# EAGLE library part 749013011A (library WE-LAN)
WE-LAN LAN Transformer Characteristics Suitable for industrial temperatures from –40 °C up to +125 °C Different version available from 1.5 kV isolation to 6 kV. HPLE version Additional CMC for higher attenuation Non PoE, PoE and PoE++ up to 2 A PoE up to 150 W and speeds up to 1 Gbit/s Available in SMT Compliant with standards: IEEE 802.3u, IEEE 802.3ab, IEEE 802.3af, IEEE 802.3at and IEEE 802.3bt UL Recognized Applications Compatible to Industrial Ethernet systems like EtherCAT or Profinet Compliant with most IC’s for Ethernet applications such as Microchip, Texas Instruments, Broadcom, Linear Technology Router, switches, sensors, robotics, automation, IP cameras, IoT applications Details see: www.we-online.com/en/components/products/WE-LAN Updated by Ella Wu 2024-03-21 2024 (C) Würth Elektronik
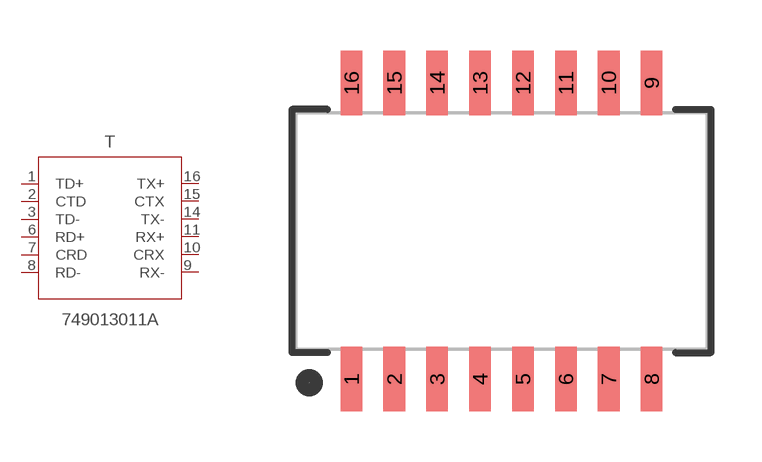
[diagram p28: symbol with the pads of 749013011A; footprint 749013011A]

Designator prefix T

## 749013011A (DATA-RATE: 10/100BASE-TX; DATASHEET: https://www.we-online.com/redexpert/spec/749013011A?ae; HPLE: No; IMPROVED-CMRR: No; L: 350 uH; MOUNT: SMT; OPERATING-TEMPERATURE: -40 °C up to +105 °C; PART-NUMBER: 749013011A; POE: PoE (up to 350 mA); PORTS: 1; VALUE: 749013011A; VT: 1500 V (RMS))  [749013011A]
1  TD+  pas
2  CTD  pas
3  TD-  pas
6  RD+  pas
7  CRD  pas
8  RD-  pas
9  RX-  pas
10  CRX  pas
11  RX+  pas
14  TX-  pas
15  CTX  pas
16  TX+  pas

## Footprint 749013011A (pad centres in mm)
WE-LAN LAN Transformer 10/100BASE-TX, 1Port, SMT
smd 0.64 x 1.91: 1 -4.445,-4.385; 2 -3.175,-4.385; 3 -1.905,-4.385; 4 -0.635,-4.385; 5 0.635,-4.385; 6 1.905,-4.385; 7 3.175,-4.385; 8 4.445,-4.385; 9 4.445,4.385; 10 3.175,4.385; 11 1.905,4.385; 12 0.635,4.385; 13 -0.635,4.385; 14 -1.905,4.385; 15 -3.175,4.385; 16 -4.445,4.385